# EAGLE library part 61901011021 (library WR-WTB)
WR-WTB 2.54 mm Male Right Angled Locking Header Bottom Locking Material Properties Insulator Material Nylon 66 Insulator Flammability Rating UL94 V-0 Insulator Color Beige Contact Material Copper Alloy Contact Plating Tin Contact Type Stamped Certification UL Approval E323964 General Information Operating Temperature -40 °C up to +105 °C Working Voltage 250 V (AC) Withstanding Voltage 1000 V (AC) Contact Resistance 20 mΩ RISO 1000 MΩ Pitch 2.54 mm Gender Male Type Right Angled Bottom Locking Packaging Properties Packaging Bag Details see: www.we-online.com/en/components/products/WTB_2_54_MALE_RIGHT_ANGLED_LOCKING_HEADER_BOTTOM_LOCKING Updated by Ella 2025-03-06 2025 (C) Würth Elektronik
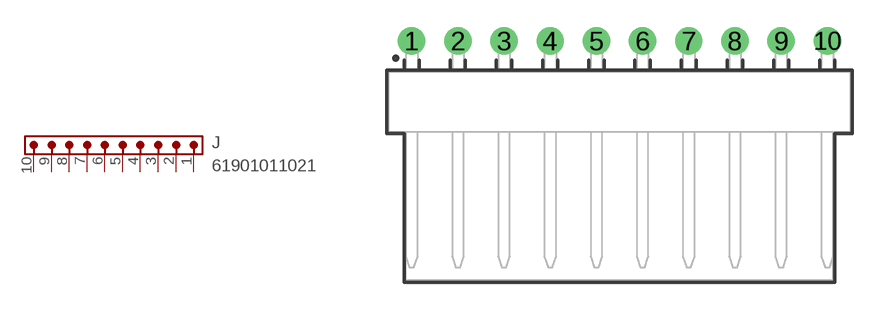
[diagram p119: symbol with the pads of 61901011021; footprint 61901011021]

Designator prefix J

## 61901011021 (CONTACT-RESISTANCE: 20mOhm; DATASHEET: https://www.we-online.com/redexpert/spec/61901011021?ae; GENDER: Male; IR: 3A; L: 25.4mm; MOUNT: THT; PACKAGING: Bag; PART-NUMBER: 61901011021; PCB-CABLE-PANEL: PCB; PINS: 10; PITCH: 2.54mm; TYPE: Right Angled Bottom Locking; VALUE: 61901011021; WORKING-VOLTAGE: 250V(AC))  [61901011021]
1  1  pas
2  2  pas
3  3  pas
4  4  pas
5  5  pas
6  6  pas
7  7  pas
8  8  pas
9  9  pas
10  10  pas

## Footprint 61901011021 (pad centres in mm)
WR-WTB 2.54 mm Male Header Right Angled Bottom Locking, THT, 9pins LXWXH=25.4X11.5X5.8mm
drill 1: 1 -11.43,3.35; 2 -8.89,3.35; 3 -6.35,3.35; 4 -3.81,3.35; 5 -1.27,3.35; 6 1.27,3.35; 7 3.81,3.35; 8 6.35,3.35; 9 8.89,3.35; 10 11.43,3.35